# EAGLE library part SMARTPRJ_PINHD-1X8 (library MakerShop)
PIN HEADER
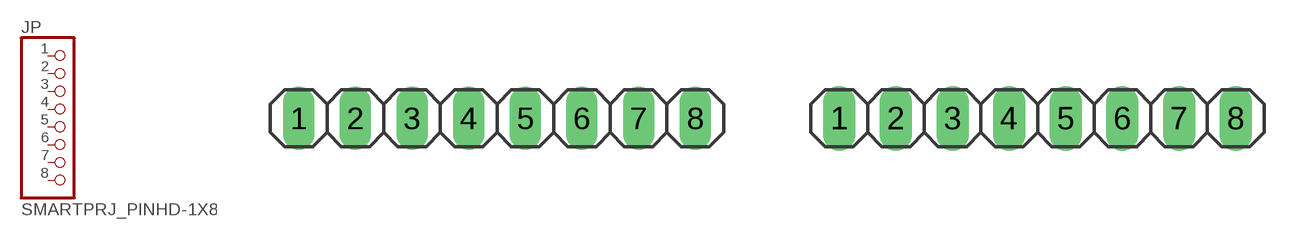
[diagram p1: symbol with the pads of SMARTPRJ_1X08; footprints SMARTPRJ_1X08, SMARTPRJ_1X08-TH]

Designator prefix JP

## SMARTPRJ_PINHD-1X8  [SMARTPRJ_1X08]
1  1  pas
2  2  pas
3  3  pas
4  4  pas
5  5  pas
6  6  pas
7  7  pas
8  8  pas

## SMARTPRJ_PINHD-1X8TH  [SMARTPRJ_1X08-TH]
Pads as for SMARTPRJ_1X08

## Footprint SMARTPRJ_1X08 (pad centres in mm)
PIN HEADER
drill 0.85 pad 1.422 long: 1 -8.89,0; 2 -6.35,0; 3 -3.81,0; 4 -1.27,0; 5 1.27,0; 6 3.81,0; 7 6.35,0; 8 8.89,0

## Footprint SMARTPRJ_1X08-TH (pad centres in mm)
drill 0.95 pad 1.422 long: 1 -8.89,0; 2 -6.35,0; 3 -3.81,0; 4 -1.27,0; 5 1.27,0; 6 3.81,0; 7 6.35,0; 8 8.89,0